# EAGLE library part TXS0104EPWR (library TXS0104EPWR)
Check availability <https://pricing.snapeda.com/parts/TXS0104EPWR/Texas%20Instruments/view-part?ref=eda>
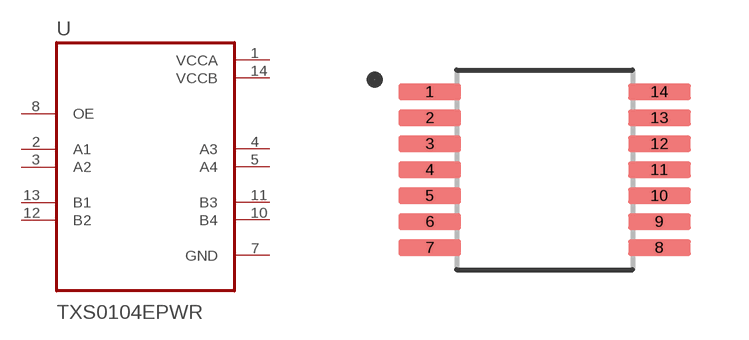
[diagram p0: symbol with the pads of SOP65P640X120-14N; footprint SOP65P640X120-14N]

Designator prefix U

## TXS0104EPWR (Availability: In Stock; Description: 4-Bit Bidirectional Voltage-Level Shifter for Open-Drain and Push-Pull Applications; MF: Texas Instruments; MP: TXS0104EPWR; Package: TSSOP-14 Texas Instruments; Price: None; Purchase-URL: https://pricing.snapeda.com/search/part/TXS0104EPWR/?ref=eda)  [SOP65P640X120-14N]
1  VCCA  pwr
2  A1
3  A2
4  A3
5  A4
7  GND  pwr
8  OE  in
10  B4
11  B3
12  B2
13  B1
14  VCCB  pwr

## Footprint SOP65P640X120-14N (pad centres in mm)
smd 1.57 x 0.41: 1 -2.87,1.95; 2 -2.87,1.3; 3 -2.87,0.65; 4 -2.87,0; 5 -2.87,-0.65; 6 -2.87,-1.3; 7 -2.87,-1.95; 8 2.87,-1.95; 9 2.87,-1.3; 10 2.87,-0.65; 11 2.87,0; 12 2.87,0.65; 13 2.87,1.3; 14 2.87,1.95